# EAGLE library part AD8226 (library esbd-chips)
AD8226 Analog Devices Wide Supply Range, Rail-to-Rail Output Instrumentation Amplifier
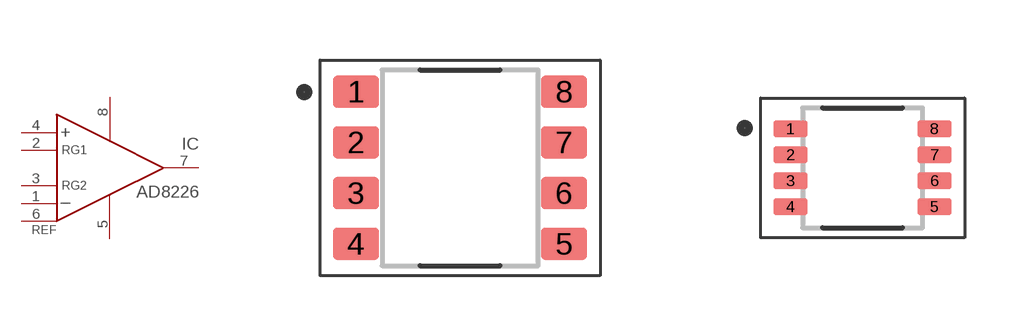
[diagram p12: symbol with the pads of SOIC8_3.90X4.90MM; footprints SOIC8_3.90X4.90MM, SOP8_3.00X3.00MM]

Designator prefix IC

## AD8226-*RZ  [SOIC8_3.90X4.90MM]
1  IN-  in
2  RG1  pas
3  RG2  pas
4  IN+  in
5  V-  pwr
6  REF  in
7  OUT  out
8  V+  pwr

## AD8226-*RMZ  [SOP8_3.00X3.00MM]
Pads as for SOIC8_3.90X4.90MM

## Footprint SOIC8_3.90X4.90MM (pad centres in mm)
https://www.analog.com/media/en/package-pcb-resources/package/pkg_pdf/ltc-legacy-soic/05081610_G_SO8.pdf
smd 1.15 x 0.8: 1 -2.6,1.905; 2 -2.6,0.635; 3 -2.6,-0.635; 4 -2.6,-1.905; 5 2.6,-1.905; 6 2.6,-0.635; 7 2.6,0.635; 8 2.6,1.905

## Footprint SOP8_3.00X3.00MM (pad centres in mm)
https://assets.nexperia.com/documents/package-information/SOT505-2.pdf
smd 0.85 x 0.4: 1 -1.8,0.975; 2 -1.8,0.325; 3 -1.8,-0.325; 4 -1.8,-0.975; 5 1.8,-0.975; 6 1.8,-0.325; 7 1.8,0.325; 8 1.8,0.975